# EAGLE library part CON19_AMP_623364 (library wheat)
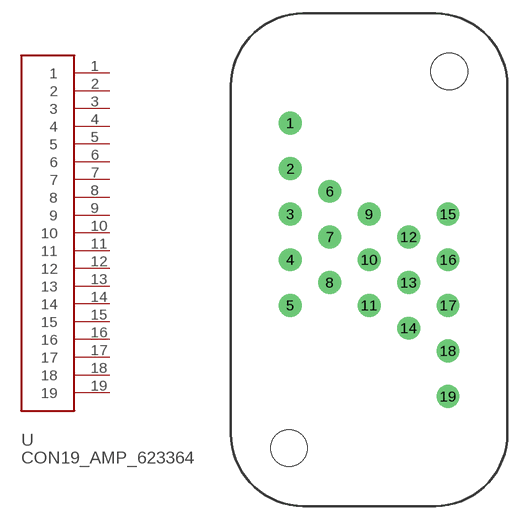
[diagram p238: symbol with the pads of CON19_AMP_623364; footprint CON19_AMP_623364]

Designator prefix -

## CON19_AMP_623364  [CON19_AMP_623364]
1  1
2  2
3  3
4  4
5  5
6  6
7  7
8  8
9  9
10  10
11  11
12  12
13  13
14  14
15  15
16  16
17  17
18  18
19  19

## Footprint CON19_AMP_623364 (pad centres in mm)
AMP 623364 metrimate drawer connector (PCB)
drill 1.2 pad 2.54: 1 -8.788,15.24; 2 -8.788,10.16; 3 -8.788,5.08; 4 -8.788,0; 5 -8.788,-5.08; 6 -4.394,7.62; 7 -4.394,2.54; 8 -4.394,-2.54; 9 0,5.08; 10 0,0; 11 0,-5.08; 12 4.394,2.54; 13 4.394,-2.54; 14 4.394,-7.62; 15 8.788,5.08; 16 8.788,0; 17 8.788,-5.08; 18 8.788,-10.16; 19 8.788,-15.24
hole 4.089 at -8.915,-20.98
hole 4.089 at 8.915,20.98